# Altium footprint library HyTechDevices.PCBLIB: 298 footprints (part 5 of 19)
Each footprint in its own frame and in the unit in brackets; x right, y up, seen from the top. Pads: shape width x height; smd on the part's side, far side on the other; paste and mask are expansions set on the pad; w line width, h text height; cw(c..) or ccw(c..) is an arc to the next point about the centre after c.
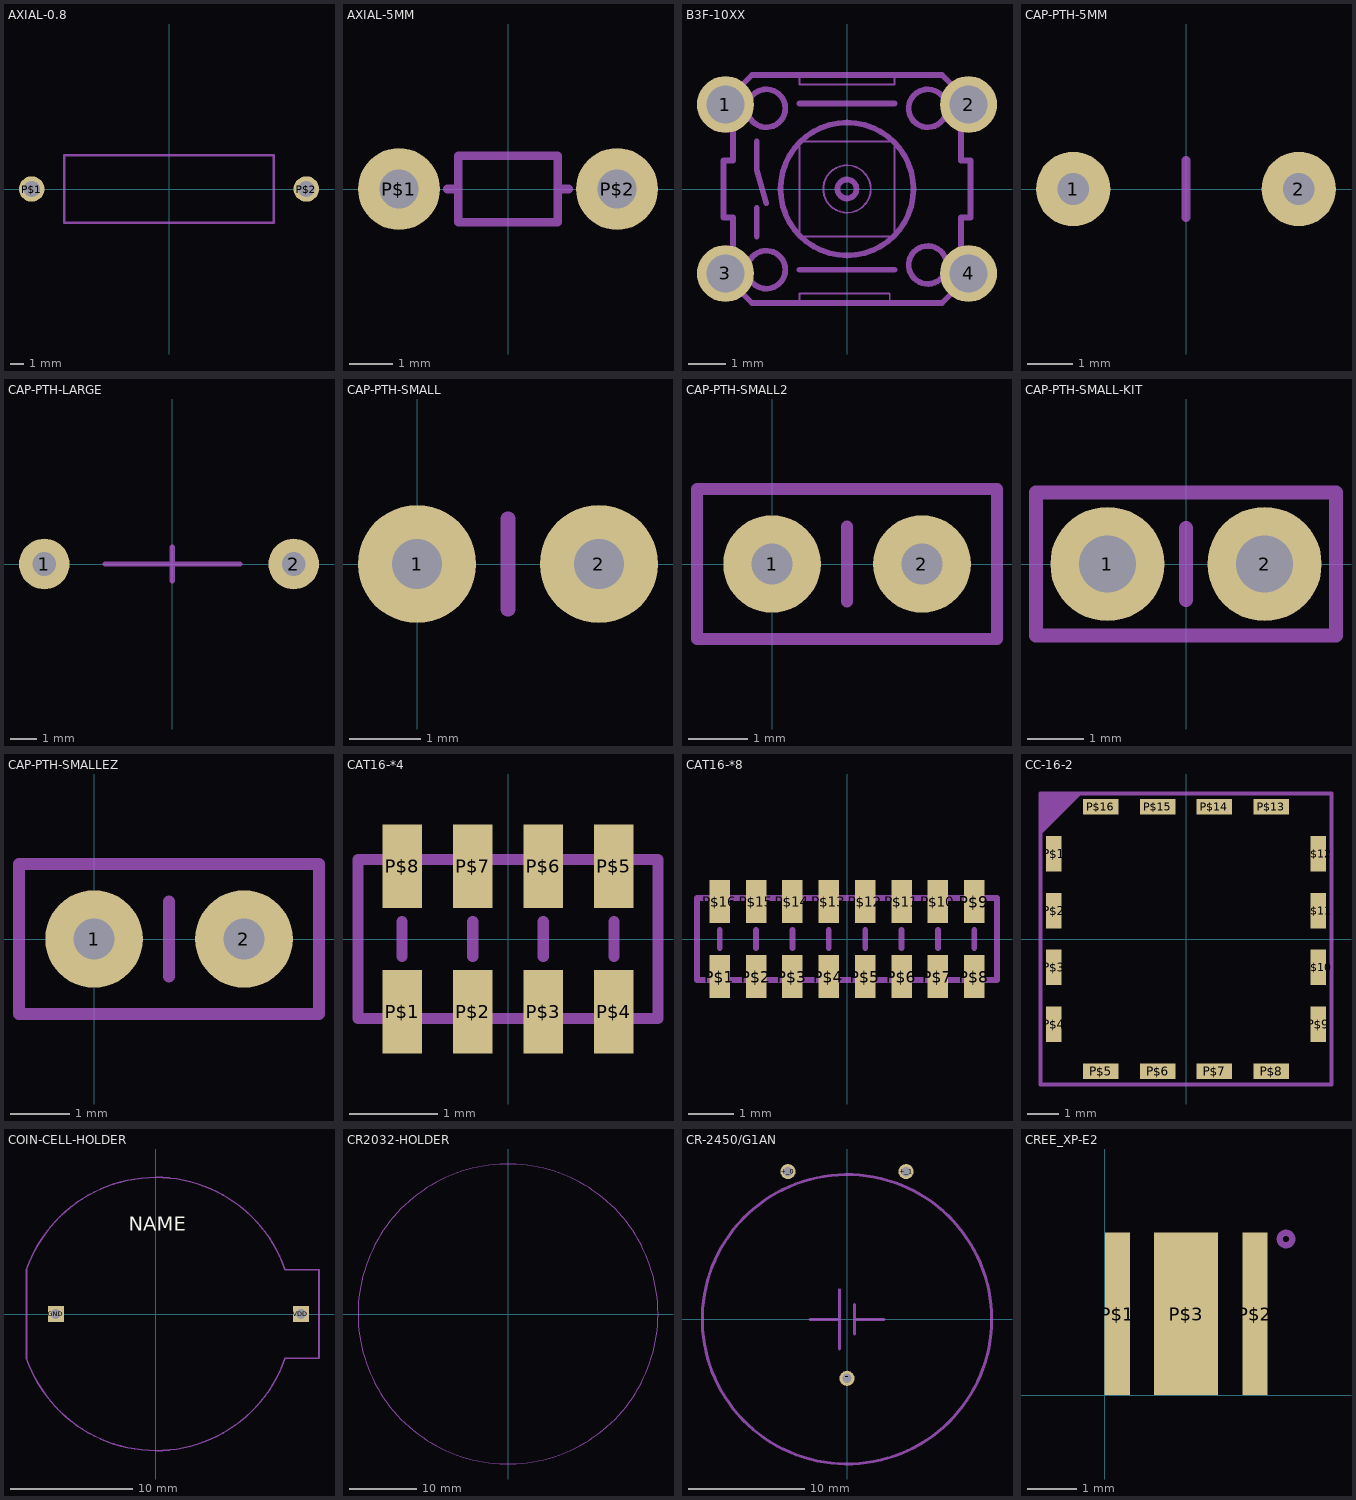
[diagram p4: the footprints below, top view; thin cyan lines are the x and y axes]

## AXIAL-0.8 [mil]
pads (2):
  round 74 hole 47.24: P$1(-400,0) P$2(400,0)
Mechanical 7:
  lines w8: -305.12,-98.43 -305.12,98.43 305.12,98.43 305.12,-98.43 -305.12,-98.43

## AXIAL-5MM [mil]
pads (2):
  round 74 hole 35.43: P$1(-98.43,0) P$2(98.43,0)
Mechanical 7:
  lines w8: -54.88,0 -44.88,0 ; 54.88,0 44.88,0 ; -44.88,0 -44.88,-30 44.88,-30 44.88,0 ; -44.88,0 -44.88,30 44.88,30 44.88,0

## B3F-10XX [mil]
pads (4):
  round 60 hole 40: 1(-128,89) 2(128,89) 3(-128,-89) 4(128,-89)
Mechanical 3:
  circle w6: c-85,-85 r20
  circle w6: c85,-80 r20
  circle w6: c85,85 r20
  circle w6: c-85,85 r20
  circle w2: c0,0 r25
  lines w2: -50,-50 -50,50 50,50 50,-50 -50,-50
  lines w6: -120,-40 -120,-100 -100,-120 -85,-120 ; -120,40 -120,100 -100,120 -85,120 ; -95,-50 -95,-20 ; -95,50 -95,20 -85,-15 ; -50,-85 50,-85 ; -50,90 50,90 ; 85,-120 100,-120 120,-100 120,-40 ; 85,120 100,120 120,100 120,40
  text "1" at -170,65 h77.5
  text "2" at 140,60 h77.5
  text "3" at -180,-110 h77.5
  text "4" at 140,-110 h77.5
Mechanical 7:
  circle w6: c0,0 r70
  circle w6: c0,0 r10
  lines w2: -50,-120 -50,-110 45,-110 45,-120 ; -50,120 -50,110 50,110 50,120
  lines w6: -120,-40 -120,-30 -130,-30 -130,30 -120,30 -120,40 ; -85,-120 -50,-120 45,-120 85,-120 ; -85,120 -50,120 50,120 85,120 ; 120,-40 120,-30 130,-30 130,30 120,30 120,40

## CAP-PTH-5MM [mil]
pads (2):
  round 65 hole 27.56: 1(-98.43,0) 2(98.43,0)
Mechanical 7:
  lines w8: 0,-25 0,25

## CAP-PTH-LARGE [mil]
pads (2):
  round 75 hole 35.43: 1(-190,0) 2(180,0)
Mechanical 7:
  lines w8: -100,0 0,0 ; 0,-25 0,0 ; 0,25 0,0 ; 100,0 0,0

## CAP-PTH-SMALL [mil]
pads (2):
  round 65 hole 27.56: 1(0,0) 2(100,0)
Mechanical 7:
  lines w8: 50,-25 50,25

## CAP-PTH-SMALL2 [mil]
pads (2):
  round 65 hole 27.56: 1(0,0) 2(100,0)
Mechanical 7:
  lines w8: 50,-25 50,25 ; -50,-50 150,-50 150,50 -50,50 -50,-50

## CAP-PTH-SMALL-KIT [mil]
pads (2):
  round 80 hole 40: 1(-55,0) 2(55,0)
Top Solder:
  region: -55.3,-17.3 -58.7,-17.38 -65.05,-14.92 -69.97,-10.23 -72.72,-4 -72.8,-0.6 -72.89,2.97 -70.32,9.64 -65.4,14.81 -58.87,17.71 -55.3,17.8 -51.78,17.74 -45.32,14.94 -40.42,9.87 -37.84,3.32 -37.9,-0.2 -37.93,-3.63 -40.61,-9.95 -45.51,-14.76 -51.87,-17.33 -55.3,-17.3
  region: 54.9,-17.3 51.5,-17.38 45.15,-14.92 40.23,-10.23 37.48,-4 37.4,-0.6 37.31,2.97 39.88,9.64 44.8,14.81 51.33,17.71 54.9,17.8 58.42,17.74 64.88,14.94 69.78,9.87 72.36,3.32 72.3,-0.2 72.27,-3.63 69.59,-9.95 64.69,-14.76 58.33,-17.33 54.9,-17.3
Bottom Solder:
  region: -55.2,-37.3 -58.85,-37.35 -66.04,-36.02 -72.83,-33.31 -78.96,-29.34 -84.2,-24.24 -88.34,-18.22 -91.23,-11.5 -92.75,-4.35 -92.8,-0.7 -92.84,3.04 -91.47,10.39 -88.7,17.33 -84.62,23.59 -79.39,28.94 -73.23,33.17 -66.35,36.11 -59.04,37.66 -55.3,37.7 -51.56,37.65 -44.25,36.08 -37.39,33.12 -31.23,28.88 -26.02,23.51 -21.96,17.24 -19.2,10.29 -17.85,2.94 -17.9,-0.8 -17.94,-4.43 -19.43,-11.55 -22.29,-18.23 -26.39,-24.24 -31.59,-29.32 -37.67,-33.29 -44.42,-36 -51.57,-37.34 -55.2,-37.3
  region: 55,-37.3 51.35,-37.35 44.16,-36.02 37.37,-33.31 31.24,-29.33 26.01,-24.24 21.87,-18.21 18.98,-11.5 17.46,-4.35 17.41,-0.7 17.36,3.04 18.73,10.39 21.51,17.33 25.59,23.59 30.81,28.94 36.98,33.17 43.85,36.11 51.16,37.66 54.9,37.7 58.64,37.65 65.95,36.08 72.81,33.12 78.97,28.88 84.18,23.51 88.24,17.24 91,10.29 92.35,2.94 92.3,-0.8 92.26,-4.43 90.77,-11.55 87.91,-18.23 83.81,-24.24 78.61,-29.32 72.53,-33.29 65.78,-36 58.63,-37.34 55,-37.3
Mechanical 7:
  lines w10: 0,-25 0,25 ; -105,-50 105,-50 105,50 -105,50 -105,-50

## CAP-PTH-SMALLEZ [mil]
pads (2):
  round 65 hole 27.56: 1(0,0) 2(100,0)
Top Solder:
  circle w0: c0,0 r15.81
  circle w0: c100,0 r15.81
Bottom Solder:
  circle w0: c0,0 r35.36
  circle w0: c100,0 r36.06
Mechanical 7:
  lines w8: 50,-25 50,25 ; -50,-50 150,-50 150,50 -50,50 -50,-50

## CAT16-*4 [mm]
pads (8):
  rect 0.45x0.95 smd: P$1(-1.2,-0.825) P$2(-0.4,-0.825) P$3(0.4,-0.825) P$4(1.2,-0.825) P$5(1.2,0.825) P$6(0.4,0.825) P$7(-0.4,0.825) P$8(-1.2,0.825)
Mechanical 3:
  lines w0.127: -1.2,-0.2 -1.2,0.2 ; -0.4,-0.2 -0.4,0.2 ; 0.4,-0.2 0.4,0.2 ; 1.2,-0.2 1.2,0.2
Mechanical 7:
  lines w0.127: -1.7,-0.9 1.7,-0.9 1.7,0.9 -1.7,0.9 -1.7,-0.9

## CAT16-*8 [mm]
pads (16):
  rect 0.45x0.95 smd: P$1(-2.8,-0.825) P$2(-2,-0.825) P$3(-1.2,-0.825) P$4(-0.4,-0.825) P$5(0.4,-0.825) P$6(1.2,-0.825) P$7(2,-0.825) P$8(2.8,-0.825) P$9(2.8,0.825) P$10(2,0.825) P$11(1.2,0.825) P$12(0.4,0.825) P$13(-0.4,0.825) P$14(-1.2,0.825) P$15(-2,0.825) P$16(-2.8,0.825)
Mechanical 3:
  lines w0.127: -2.8,-0.2 -2.8,0.2 ; -2,-0.2 -2,0.2 ; -1.2,-0.2 -1.2,0.2 ; -0.4,-0.2 -0.4,0.2 ; 0.4,-0.2 0.4,0.2 ; 1.2,-0.2 1.2,0.2 ; 2,-0.2 2,0.2 ; 2.8,-0.2 2.8,0.2
Mechanical 7:
  lines w0.127: -3.3,-0.9 3.3,-0.9 3.3,0.9 -3.3,0.9 -3.3,-0.9

## CC-16-2 [mil]
pads (16):
  rect 19.69x44.37 smd: P$1(-164.82,106.12) P$2(-164.82,35.37) P$3(-164.82,-35.37) P$4(-164.82,-106.12) P$9(164.82,-106.12) P$10(164.82,-35.37) P$11(164.82,35.37) P$12(164.82,106.12)
  rect 44.37x19.69 smd: P$5(-106.12,-164.82) P$6(-35.37,-164.82) P$7(35.37,-164.82) P$8(106.12,-164.82) P$13(106.12,164.82) P$14(35.37,164.82) P$15(-35.37,164.82) P$16(-106.12,164.82)
Mechanical 7:
  region: -129.92,181.1 -181.1,129.92 -181.1,181.1
  lines w5: -181.1,-181.1 181.1,-181.1 181.1,181.1 -181.1,181.1 -181.1,-181.1

## COIN-CELL-HOLDER [mil]
pads (2):
  rect 51.5x51.5 / inner round 47.58 / far side rect 51.5x51.5 hole 31.5: GND(-320.87,0) VDD(466.54,0)
Top Overlay:
  text "NAME" at -86.61,251.97 h77.5
Mechanical 7:
  lines w5: 0,-438.98 ccw(c0,0) 414.57,-144.34 ; 0,-438.5 cw(c0,0) -414.96,-141.73 -414.96,141.73 cw(c0,0) 0,438.5 ; 0,438.98 cw(c0,0) 414.57,144.34 ; 414.96,-141.73 524.41,-141.73 524.41,141.73 414.96,141.73

## CR2032-HOLDER [mil]
Mechanical 7:
  circle w5: c0,0 r877.95

## CR-2450/G1AN [mil]
pads (3):
  round 51.5 hole 31.5: +_0(-200,500) +_1(200,500) -(0,-200)
Mechanical 7:
  circle w10: c0,0 r490
  lines w10: -125,0 -25,0 ; -25,-100 -25,0 ; -25,100 -25,0 ; 25,-50 25,0 ; 25,50 25,0 ; 125,0 25,0

## CREE_XP-E2 [mil]
pads (3):
  rect 20x130 smd: P$1(10,65) P$2(120,65)
  rect 51x130 smd: P$3(65,65)
Mechanical 7:
  circle w5: c145,125 r5